# Altium footprint library Mia_Training.PcbLib: 26 footprints (part 2 of 2)
Each footprint in its own frame and in the unit in brackets; x right, y up, seen from the top. Pads: shape width x height; smd on the part's side, far side on the other; paste and mask are expansions set on the pad; w line width, h text height; cw(c..) or ccw(c..) is an arc to the next point about the centre after c.
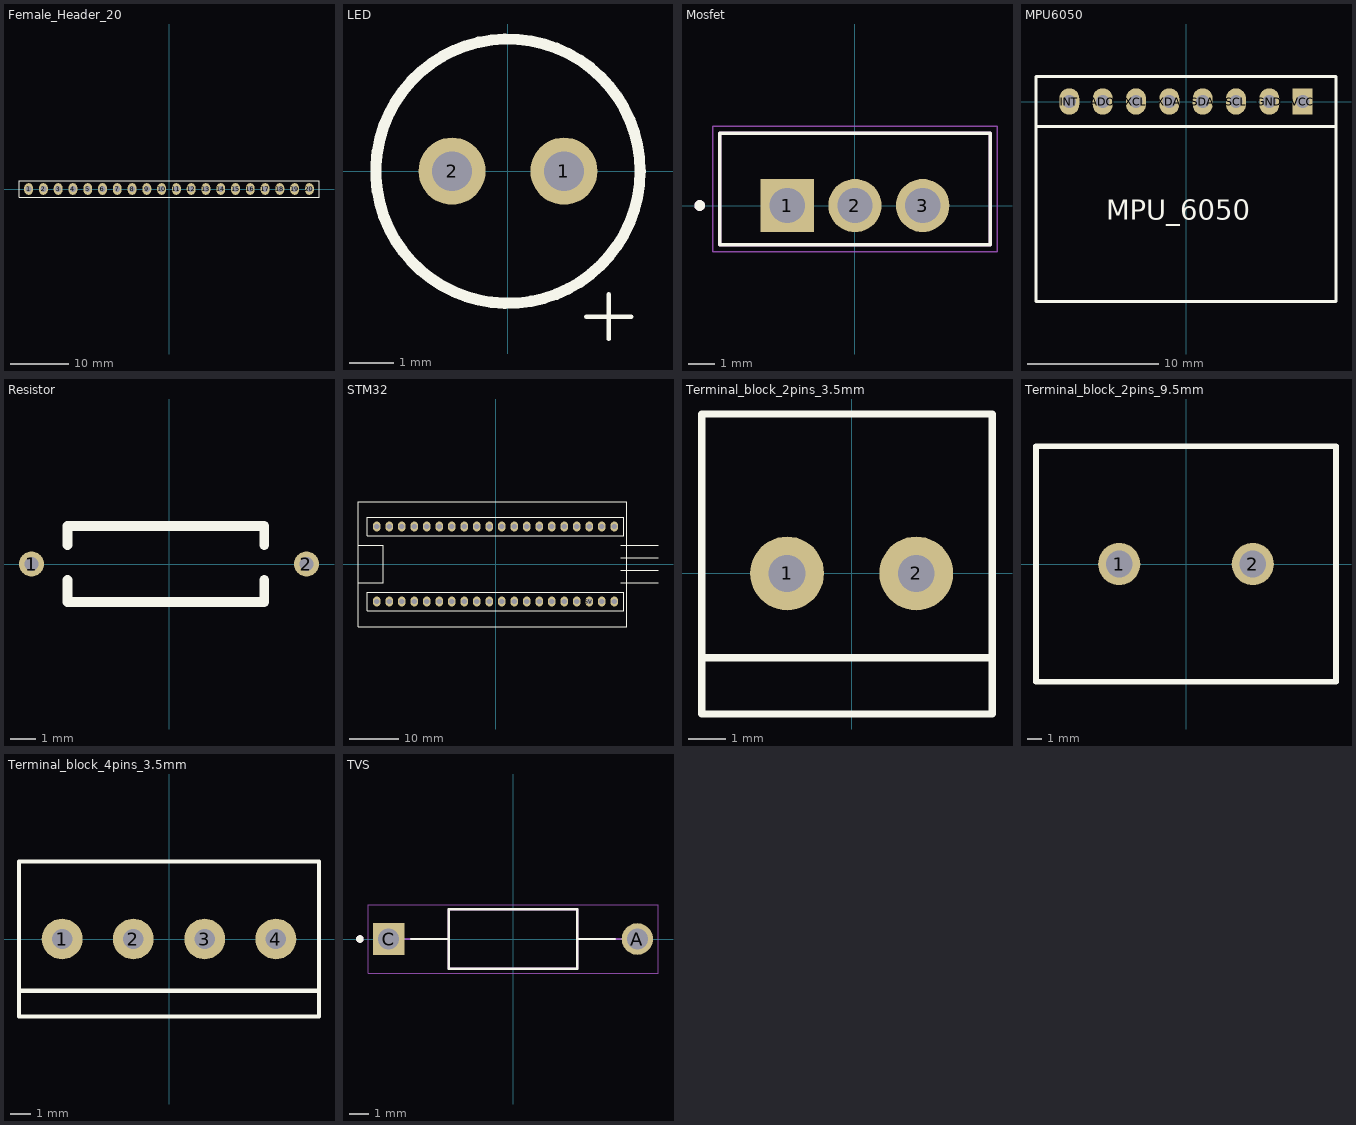
[diagram p1: the footprints below, top view; thin cyan lines are the x and y axes]

## Female_Header_20 [mil]
pads (20):
  oval 60x78.74 hole 40: 1(-950,0) 2(-850,0) 3(-750,0) 4(-650,0) 5(-550,0) 6(-450,0) 7(-350,0) 8(-250,0) 9(-150,0) 10(-50,0) 11(50,0) 12(150,0) 13(250,0) 14(350,0) 15(450,0) 16(550,0) 17(650,0) 18(750,0) 19(850,0) 20(950,0)
Top Overlay:
  lines w7.87: -1015,-55 -1015,55 1015,55 1015,-55 -1015,-55
3D body "PPTC201LFBN-RC--3DModel-STEP-56544.STEP": height 335.5, standoff -125.5, extent -1010,-50 1010,50

## LED [mil]
pads (2):
  round 60 hole 35.43: 1(50,0) 2(-50,0)
Top Overlay:
  circle w10: c0,0 r118.11
  lines w3.94: 70,-130 110,-130 ; 90,-150 90,-110
3D body "led.STEP": height 339.09, standoff -1062.49, extent -98.43,-116.14 115.51,116.14

## Mosfet [mm]
pads (3):
  rect 2x2 / inner round 2 / far side rect 2x2 hole 1.33: 1(-2.54,0)
  round 2 hole 1.33: 2(0,0) 3(2.54,0)
Top Overlay:
  circle w0.2: c-5.83,0.001 r0.1
  lines w0.127: -5.08,-1.477 -5.08,2.718 5.08,2.718 5.08,-1.477 -5.08,-1.477
Mechanical 13:
  circle w0.2: c-5.83,0.001 r0.1
  lines w0.127: -5.08,-1.477 -5.08,2.718 5.08,2.718 5.08,-1.477 -5.08,-1.477
Mechanical 15:
  lines w0.05: -5.33,-1.727 5.33,-1.727 5.33,2.968 -5.33,2.968 -5.33,-1.727
3D body "IRFB7545PBF.STEP": height 20.56, standoff -10.68, extent -5.08,-1.473 5.08,2.718

## MPU6050 [mm]
pads (8):
  oval 1.524x2 hole 1.02: ADO(-6.35,0) GND(6.35,0) INT(-8.89,0) SCL(3.81,0) SDA(1.27,0) XCL(-3.81,0) XDA(-1.27,0)
  rect 1.524x2 hole 1.02: VCC(8.89,0)
Top Overlay:
  lines w0.2: -11.43,-1.905 11.43,-1.905 ; -11.43,-15.24 11.43,-15.24 11.43,1.905 -11.43,1.905 -11.43,-15.24
  text "MPU_6050" at -6.096,-9.017 h1.52
3D body "PPTC081LFBN-RC--3DModel-STEP-56544.STEP": height 8.52, standoff -3.19, extent -10.414,-1.27 10.414,1.27
3D body "MPU 6050 IMU.STEP": height 14.64, standoff 3.47, extent -10.554,-14.605 10.554,1.27

## Resistor [mm]
pads (2):
  round 1 hole 0.55: 1(-5.5,0) 2(5.5,0)
Top Overlay:
  lines w0.4: -4.064,-1.524 3.81,-1.524 ; -4.064,-1.397 -4.064,-0.635 ; -4.064,0.762 -4.064,1.524 3.81,1.524 3.81,0.762 ; 3.81,-1.397 3.81,-0.635
3D body "MFR-25FRF52-10K.STEP": height 2.6, standoff -25.52, extent -5.775,-1.291 5.775,1.291

## STM32 [mm]
pads (40):
  oval 1.524x2 hole 1.02: 3V3(-19.05,7.62) 3V3(24.13,-7.62) 5V(19.05,-7.62) GND(-24.13,7.62) GND(-21.59,7.62) GND(21.59,-7.62) PA_0(13.97,7.62) PA_1(11.43,7.62) PA_2(8.89,7.62) PA_3(6.35,7.62) PA_4(3.81,7.62) PA_5(1.27,7.62) PA_6(-1.27,7.62) PA_7(-3.81,7.62) PA_8(-13.97,-7.62) PA_9(-11.43,-7.62) PA_10(-8.89,-7.62) PA_11(-6.35,-7.62) PA_12(-3.81,-7.62) PA_15(-1.27,-7.62) PB_0(-6.35,7.62) PB_1(-8.89,7.62) PB_3(1.27,-7.62) PB_4(3.81,-7.62) PB_5(6.35,-7.62) PB_6(8.89,-7.62) PB_7(11.43,-7.62) PB_8(13.97,-7.62) PB_9(16.51,-7.62) PB_10(-11.43,7.62) PB_11(-13.97,7.62) PB_12(-24.13,-7.62) PB_13(-21.59,-7.62) PB_14(-19.05,-7.62) PB_15(-16.51,-7.62) PC_13(21.59,7.62) PC_14(19.05,7.62) PC_15(16.51,7.62) RES(-16.51,7.62) VBT(24.13,7.62)
Top Overlay:
  lines w0.2: -27.94,-3.81 -22.86,-3.81 -22.86,3.81 -27.94,3.81 ; 25.4,-3.81 33.02,-3.81 ; 25.4,-1.27 33.02,-1.27 ; 25.4,1.27 33.02,1.27 ; 25.4,3.81 33.02,3.81 ; -27.94,-12.7 26.67,-12.7 26.67,12.7 -27.94,12.7 -27.94,-12.7 ; -26.035,-9.525 -26.035,-5.715 26.035,-5.715 26.035,-9.525 -26.035,-9.525 ; -26.035,5.715 26.035,5.715 26.035,9.525 -26.035,9.525 -26.035,5.715
3D body "Blue Pill STM32.step": height 21.6, standoff 1.5, extent -27.335,-11.43 31.086,11.43
3D body "PPTC201LFBN-RC--3DModel-STEP-56544.STEP": height 8.52, standoff -3.19, extent -25.654,-8.89 25.654,-6.35
3D body "PPTC201LFBN-RC--3DModel-STEP-56544.STEP": height 8.52, standoff -3.19, extent -25.654,6.35 25.654,8.89

## Terminal_block_2pins_3.5mm [mm]
pads (2):
  round 2 hole 1: 1(-1.75,0) 2(1.75,0)
Top Overlay:
  lines w0.2: -4.064,-2.286 3.81,-2.286 ; -4.064,-3.81 3.81,-3.81 3.81,4.318 -4.064,4.318 -4.064,-3.81
3D body "691214110002.stp": height 8.51, standoff -3.69, extent -3.925,-3.4 3.525,4

## Terminal_block_2pins_9.5mm [mm]
pads (2):
  round 3 hole 1.9: 1(-4.75,0) 2(4.75,0)
Top Overlay:
  lines w0.4: -10.668,-8.382 10.668,-8.382 10.668,8.382 -10.668,8.382 -10.668,-8.382
3D body "BARRIER BLOCK.STEP": height 18.51, standoff -4.98, extent -10.5,-8.25 10.5,8.25

## Terminal_block_4pins_3.5mm [mm]
pads (4):
  round 2 hole 1: 1(-5.25,0) 2(-1.75,0) 3(1.75,0) 4(5.25,0)
Top Overlay:
  lines w0.2: -7.366,-2.54 7.366,-2.54 ; -7.366,-3.81 7.366,-3.81 7.366,3.81 -2.54,3.81 -7.366,3.81 -7.366,-3.81
3D body "1751264.stp": height 8.51, standoff -3.49, extent -7.25,-3.65 7.25,3.65

## TVS [mm]
pads (2):
  round 1.65 hole 1.1: A(6.5,0)
  rect 1.65x1.65 / inner round 1.65 / far side rect 1.65x1.65 hole 1.1: C(-6.5,0)
Top Overlay:
  circle w0.2: c-8,0 r0.1
  lines w0.127: -5.32,0 -3.35,0 ; 5.32,0 3.35,0 ; -3.35,0 -3.35,1.55 3.35,1.55 3.35,0 ; -3.35,0 -3.35,-1.55 3.35,-1.55 3.35,0
Mechanical 13:
  circle w0.2: c-8,0 r0.1
  lines w0.127: -6.5,0 -3.35,0 ; 6.5,0 3.35,0 ; -3.35,0 -3.35,1.55 3.35,1.55 3.35,0 ; -3.35,0 -3.35,-1.55 3.35,-1.55 3.35,0
Mechanical 15:
  lines w0.05: -7.575,-1.8 -7.575,1.8 7.575,1.8 7.575,-1.8 -7.575,-1.8
3D body "P6KE400A.STEP": height 3.6, standoff -17.1, extent -6.9,-1.8 6.9,1.8